# Altium footprint library PcbLib1.PcbLib: 26 footprints (part 2 of 2)
Each footprint in its own frame and in the unit in brackets; x right, y up, seen from the top. Pads: shape width x height; smd on the part's side, far side on the other; paste and mask are expansions set on the pad; w line width, h text height; cw(c..) or ccw(c..) is an arc to the next point about the centre after c.
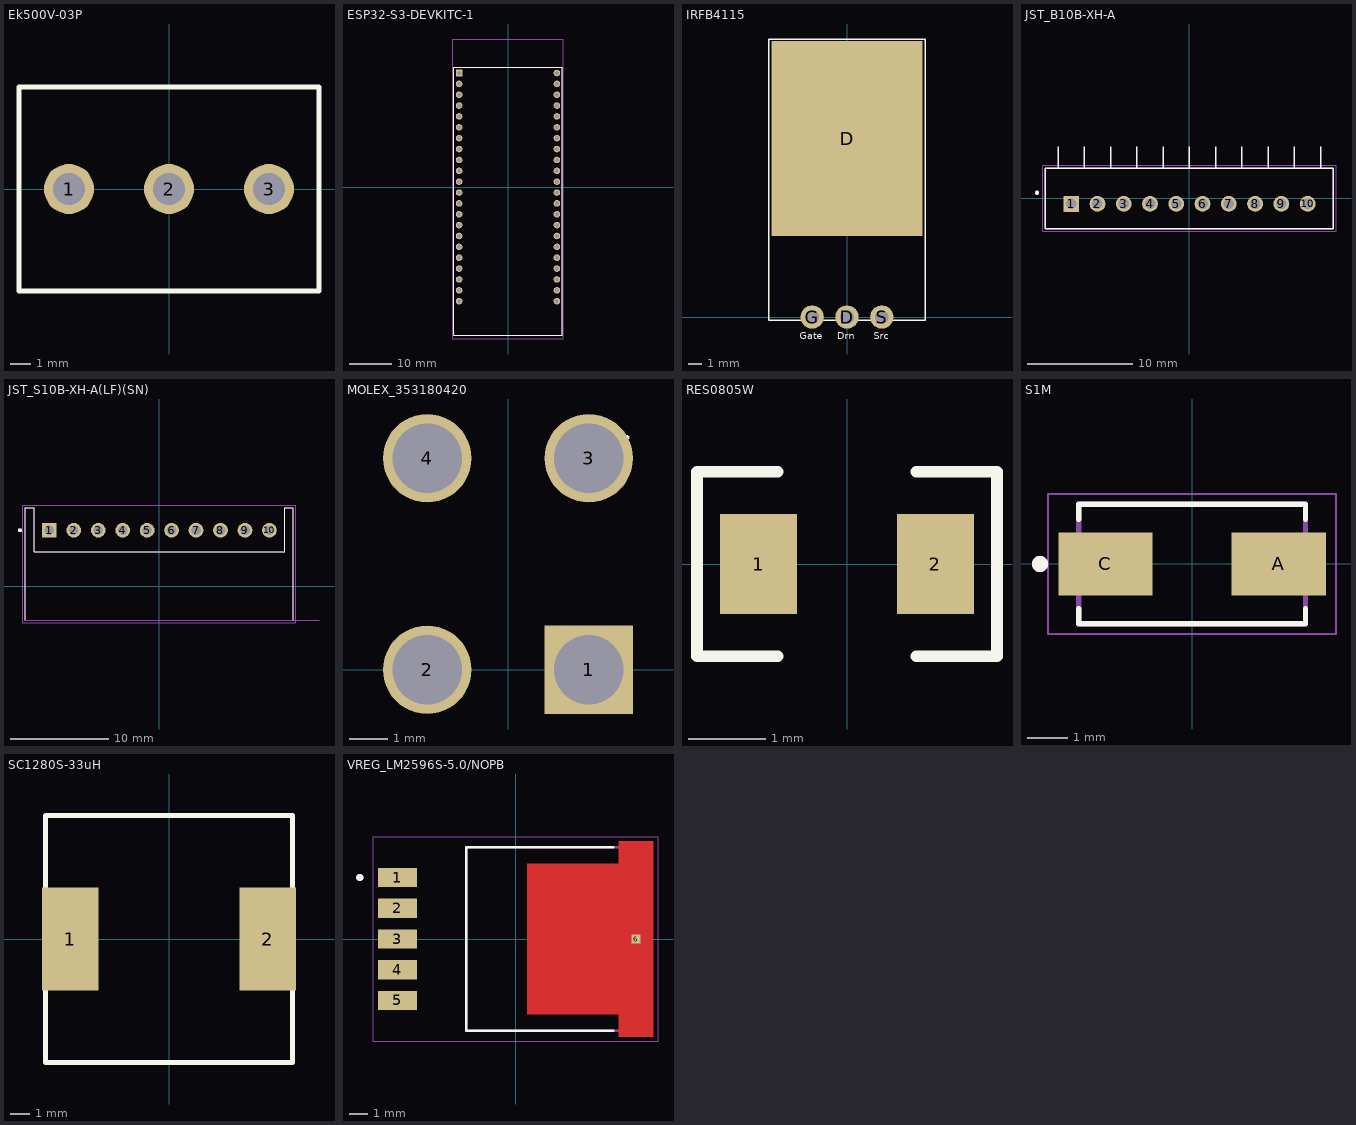
[diagram p1: the footprints below, top view; thin cyan lines are the x and y axes]

## Ek500V-03P [mm]
pads (3):
  round 2.5 hole 1.6: 1(-5,0) 2(0,0) 3(5,0)
Top Overlay:
  lines w0.254: -7.5,-5.1 7.5,-5.1 7.5,5.1 -7.5,5.1 -7.5,-5.1
3D body "DG128-5.0-03P.step": height 14, standoff -3.5, extent -7.5,-5.2 8.07,5

## ESP32-S3-DEVKITC-1 [mm]
pads (44):
  round 1.53 hole 1.02: 0(11.43,-6.35) 1(11.43,19.05) 2(11.43,16.51) 3(-11.43,-3.81) 3V3(-11.43,24.13) 4(-11.43,19.05) 5(-11.43,16.51) 5V(-11.43,-24.13) 6(-11.43,13.97) 7(-11.43,11.43) 8(-11.43,-1.27) 9(-11.43,-8.89) 10(-11.43,-11.43) 11(-11.43,-13.97) 12(-11.43,-16.51) 13(-11.43,-19.05) 14(-11.43,-21.59) 15(-11.43,8.89) 16(-11.43,6.35) 17(-11.43,3.81) 18(-11.43,1.27) 19(11.43,-21.59) 20(11.43,-19.05) 21(11.43,-16.51) 35(11.43,-3.81) 36(11.43,-1.27) 37(11.43,1.27) 38(11.43,3.81) 39(11.43,6.35) 40(11.43,8.89) 41(11.43,11.43) 42(11.43,13.97) 45(11.43,-8.89) 46(-11.43,-6.35) 47(11.43,-13.97) 48(11.43,-11.43) GND(-11.43,-26.67) GND(11.43,-26.67) GND(11.43,-24.13) GND(11.43,26.67) RST(-11.43,21.59) RX(11.43,21.59) TX(11.43,24.13)
  rect 1.53x1.53 / inner round 1.53 / far side rect 1.53x1.53 hole 1.02: 3V3(-11.43,26.67)
Top Overlay:
  lines w0.127: -12.7,-34.67 -12.7,28.07 12.7,28.07 12.7,-34.67 -12.7,-34.67
Mechanical 13:
  lines w0.127: -12.7,-34.67 -12.7,28.07 12.7,28.07 12.7,-34.67 -12.7,-34.67
Mechanical 15:
  lines w0.05: -12.95,-35.51 -12.95,34.62 12.95,34.62 12.95,-35.51 -12.95,-35.51
3D body "step_temp.STEP": height 15.69, standoff 2.3, extent -12.7,-35.26 12.7,34.38
3D body "2_54_x_22_pitch_connector_ v3.step": height 8.31, standoff -3.19, extent 10.235,-28.47 12.635,28.691
3D body "2_54_x_22_pitch_connector_ v3.step": height 8.31, standoff -3.19, extent -12.625,-28.47 -10.225,28.691

## IRFB4115 [mm]
pads (4):
  round 1.7 hole 1: D(0,0) G(-2.54,0) S(2.54,0)
  rect 11x14.2 smd: D(0,13)
Top Overlay:
  lines w0.1: -5.7,-0.25 5.7,-0.25 5.7,20.25 -5.7,20.25 -5.7,-0.25
  text "Src" at 1.95,-1.6 h0.5
  text "Drn" at -0.7,-1.6 h0.5
  text "Gate" at -3.456,-1.6 h0.5
Bottom Overlay:
  text "Src" at 3.3,-1.6 h0.5
  text "Drn" at 0.63,-1.6 h0.5
  text "Gate" at -1.7,-1.6 h0.5
3D body "TO-220_horizontal_line.stp": height 4.65, standoff -3, extent -5.25,-0.254 5.25,19.996

## JST_B10B-XH-A [mm]
height 7
pads (10):
  rect 1.508x1.508 / inner round 1.508 / far side rect 1.508x1.508 hole 1: 1(-11.25,-0.525)
  round 1.508 hole 1: 2(-8.75,-0.525) 3(-6.25,-0.525) 4(-3.75,-0.525) 5(-1.25,-0.525) 6(1.25,-0.525) 7(3.75,-0.525) 8(6.25,-0.525) 9(8.75,-0.525) 10(11.25,-0.525)
Top Overlay:
  circle w0.2: c-14.5,0.525 r0.1
  lines w0.127: -12.5,2.9 -12.5,4.9 ; -10,2.9 -10,4.9 ; -7.5,2.9 -7.5,4.9 ; -5,2.9 -5,4.9 ; -2.5,2.9 -2.5,4.9 ; 0,2.9 0,4.9 ; 2.5,2.9 2.5,4.9 ; 5,2.9 5,4.9 ; 7.5,2.9 7.5,4.9 ; 10,2.9 10,4.9 ; 12.5,2.9 12.5,4.9 ; -13.7,-2.875 -13.7,2.875 13.7,2.875 13.7,-2.875 -13.7,-2.875
Mechanical 13:
  circle w0.2: c-14.5,0.525 r0.1
  lines w0.127: -13.7,-2.875 -13.7,2.875 13.7,2.875 13.7,-2.875 -13.7,-2.875
Mechanical 15:
  lines w0.05: -13.95,-3.125 -13.95,3.125 13.95,3.125 13.95,-3.125 -13.95,-3.125
3D body "step_temp.STEP": height 6.1, standoff -3.4, extent -13.7,-9.779 13.7,1.721

## JST_S10B-XH-A(LF)(SN) [mm]
pads (10):
  rect 1.508x1.508 / inner round 1.508 / far side rect 1.508x1.508 hole 1: 1(-11.25,5.7)
  round 1.508 hole 1: 2(-8.75,5.7) 3(-6.25,5.7) 4(-3.75,5.7) 5(-1.25,5.7) 6(1.25,5.7) 7(3.75,5.7) 8(6.25,5.7) 9(8.75,5.7) 10(11.25,5.7)
Top Overlay:
  circle w0.2: c-14.25,5.7 r0.1
  lines w0.127: -13.7,-3.5 -13.7,8 -12.8,8 -12.8,3.5 12.8,3.5 12.8,8 13.7,8 13.7,-3.5
Mechanical 13:
  circle w0.2: c-14.25,5.7 r0.1
  lines w0.127: 16.32,-3.5 13.7,-3.5 ; 13.7,-3.5 -13.7,-3.5 -13.7,8 -12.8,8 -12.8,3.5 12.8,3.5 12.8,8 13.7,8 13.7,-3.5
  text "PCB Edge" at 14.168,-3.203 h0.81
Mechanical 15:
  lines w0.05: -13.95,-3.75 -13.95,8.25 13.95,8.25 13.95,-3.75 -13.95,-3.75
3D body "step_temp.STEP": height 6.1, standoff -3.4, extent -13.7,-3.5 13.7,8

## MOLEX_353180420 [mm]
height 11.4
pads (4):
  rect 2.3x2.3 / inner round 2.3 / far side rect 2.3x2.3 hole 1.8 mask+0.076: 1(2.1,0)
  round 2.3 hole 1.8 mask+0.076: 2(-2.1,0) 3(2.1,5.5) 4(-2.1,5.5)
Top Overlay:
  lines w0.127: 1.476,6.04 3.1,6.04
3D body "0353180420.step": height 11.4, standoff -4, extent -5.197,-0.508 4.8,19.427

## RES0805W [mm] "2012급"
pads (2):
  rect 1x1.3 smd: 1(-1.15,0) 2(1.15,0)
Top Overlay:
  lines w0.152: -0.9,-1.2 -1.95,-1.2 -1.95,1.2 -0.9,1.2 ; 0.9,-1.2 1.95,-1.2 1.95,1.2 0.9,1.2
3D body "RES0805.stp": height 0.5, standoff 0, extent -1,-0.625 1,0.625

## S1M [mm] "Diode Standard 1000 V 1A Surface Mount DO-214AC (SMA)"
height 2.7
pads (2):
  rect 2.33x1.56 smd paste+0 mask+0.102: A(2.14,0) C(-2.14,0)
Top Overlay:
  circle w0.2: c-3.755,0 r0.1
  lines w0.127: -2.8,-1.1 -2.8,-1.475 2.8,-1.475 2.8,-1.1 ; -2.8,1.1 -2.8,1.475 2.8,1.475 2.8,1.1
Mechanical 13:
  circle w0.2: c-3.755,0 r0.1
  lines w0.127: -2.8,-1.475 -2.8,1.475 2.8,1.475 2.8,-1.475 -2.8,-1.475
Mechanical 15:
  lines w0.05: -3.555,-1.725 3.555,-1.725 3.555,1.725 -3.555,1.725 -3.555,-1.725
3D body "S1M.STEP": height 2.5, standoff 0, extent -2.6,-1.362 2.6,1.362

## SC1280S-33uH [mm]
pads (2):
  rect 3x5.4 smd: 1(-5.2,0) 2(5.2,0)
Top Overlay:
  lines w0.254: -6.5,-6.5 6.5,-6.5 6.5,6.5 -6.5,6.5 -6.5,-6.5
3D body "SC1280S-33uH.step": height 8, standoff 0, extent -6.5,-6.5 6.5,6.5

## VREG_LM2596S-5.0/NOPB [mm]
height 4.65
pads (6):
  rect 2.16x1.07 smd paste+0 mask+0.102: 1(-6.545,3.4) 2(-6.545,1.7) 3(-6.545,0) 4(-6.545,-1.7) 5(-6.545,-3.4)
  rect 0.5x0.5 smd paste-1 mask+0: 6(6.67,0)
Top Layer:
  region: 7.625,-5.4 5.715,-5.4 5.715,-4.165 0.635,-4.165 0.635,4.165 5.715,4.165 5.715,5.4 7.625,5.4
Top Overlay:
  circle w0.2: c-8.625,3.4 r0.1
  lines w0.127: 5.395,-5.08 -2.735,-5.08 -2.735,5.08 5.395,5.08
Top Paste:
  region: 2.605,0.285 1.205,0.285 1.205,1.795 2.605,1.795
  region: 2.605,2.365 1.205,2.365 1.205,3.875 2.605,3.875
  region: 5.145,0.285 3.745,0.285 3.745,1.795 5.145,1.795
  region: 5.145,2.365 3.745,2.365 3.745,3.875 5.145,3.875
  region: 2.605,-1.795 1.205,-1.795 1.205,-0.285 2.605,-0.285
  region: 5.145,-1.795 3.745,-1.795 3.745,-0.285 5.145,-0.285
  region: 2.605,-3.875 1.205,-3.875 1.205,-2.365 2.605,-2.365
  region: 5.145,-3.875 3.745,-3.875 3.745,-2.365 5.145,-2.365
  region: 7.095,0.065 6.245,0.065 6.245,1.285 7.095,1.285
  region: 7.095,1.415 6.245,1.415 6.245,2.635 7.095,2.635
  region: 7.095,2.765 6.245,2.765 6.245,3.985 7.095,3.985
  region: 7.095,4.115 6.245,4.115 6.245,5.335 7.095,5.335
  region: 7.095,-1.285 6.245,-1.285 6.245,-0.065 7.095,-0.065
  region: 7.095,-2.635 6.245,-2.635 6.245,-1.415 7.095,-1.415
  region: 7.095,-3.985 6.245,-3.985 6.245,-2.765 7.095,-2.765
  region: 7.095,-5.335 6.245,-5.335 6.245,-4.115 7.095,-4.115
Top Solder:
  region: 7.725,-5.5 5.615,-5.5 5.615,-4.265 0.535,-4.265 0.535,4.265 5.615,4.265 5.615,5.5 7.725,5.5
Mechanical 13:
  circle w0.2: c-8.625,3.4 r0.1
  lines w0.127: -2.735,-5.08 -2.735,5.08 5.905,5.08 5.905,-5.08 -2.735,-5.08
Mechanical 15:
  lines w0.05: -7.875,-5.65 -7.875,5.65 7.875,5.65 7.875,-5.65 -7.875,-5.65
3D body "step_temp.STEP": height 4.78, standoff -0.08, extent -7.176,-5.08 7.196,5.08